# Altium schematic symbol library EPCQ32SI8N.SchLib: 1 symbol
Pins are listed as number, name and electrical type; pins without a type are passive.

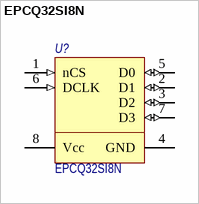
[diagram p0: symbol EPCQ32SI8N]

## EPCQ32SI8N
designator U?
Programmable NOR flash memory; Потребление, Вт: 0.06; Назначение: Programmable NOR flash memory; ComponentLink1Description: DataSheet; ComponentLink1URL: https://www.intel.com/content/dam/www/programmable/us/en/pdfs/literature/hb/cfg/cfg_cf52014.pdf; Supplier 1: Mouser; Supplier Part Number 1: 989-EPCQ32SI8N; Наименование: EPCQ32SI8N
footprint SOIC-8
pins: 1 nCS (in), 2 D1 (io) "Data 1", 3 D2 (io) "Data 2", 4 GND (power), 5 D0 (io) "Data 0", 6 DCLK (in), 7 D3 (io) "Data 3", 8 Vcc (power)